# EAGLE library part LTS-4301JR (library LTS-4301JR)
LED Displays & Accessories 1-DIG Red CCRHD Source: Datasheet <https://componentsearchengine.com/Datasheets/1/LTS-4301JR.pdf>
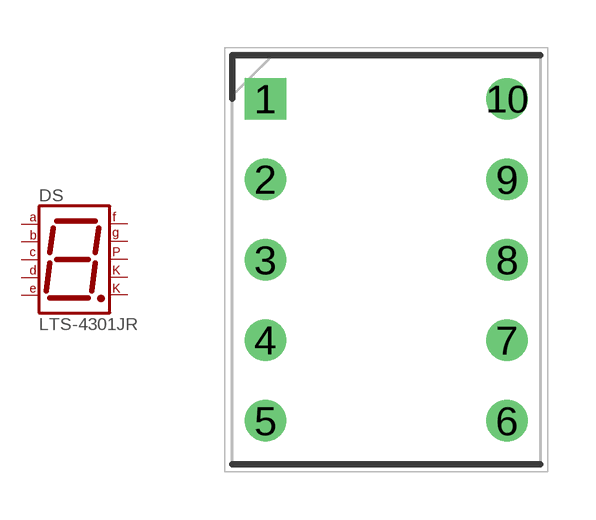
[diagram p0: symbol with the pads of DIPS762W50P254L1290H700Q10N; footprint DIPS762W50P254L1290H700Q10N]

Designator prefix DS

## LTS-4301JR (DESCRIPTION: LED Displays & Accessories 1-DIG Red CCRHD; HEIGHT: 7mm; MANUFACTURER_NAME: Lite-On; MANUFACTURER_PART_NUMBER: LTS-4301JR; MOUSER_PART_NUMBER: 859-LTS-4301JR; MOUSER_PRICE-STOCK: https://www.mouser.com/Search/Refine.aspx?Keyword=859-LTS-4301JR)  [DIPS762W50P254L1290H700Q10N]
1  G  pas
2  F  pas
3  CK1  pas
4  E  pas
5  D  pas
6  DP  pas
7  C  pas
8  CK2  pas
9  B  pas
10  A  pas

## Footprint DIPS762W50P254L1290H700Q10N (pad centres in mm)
LTS-4301JR
drill 0.8 pad 1.2 square: 1 0,0
drill 0.8 pad 1.2: 2 0,-2.54; 3 0,-5.08; 4 0,-7.62; 5 0,-10.16; 6 7.62,-10.16; 7 7.62,-7.62; 8 7.62,-5.08; 9 7.62,-2.54; 10 7.62,0